# Altium integrated library 0201Capacitor_KEMET.IntLib: 2 symbols
Pins are listed as number, name and electrical type; pins without a type are passive.

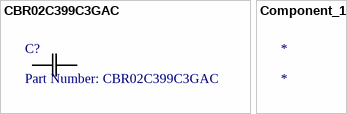
[diagram p0: symbols CBR02C399C3GAC to Component_1]

## CBR02C399C3GAC
designator C?, comment Part Number: CBR02C399C3GAC
No Description Available; Vendor: KEMET; Built_By: EMA_UL_Team; Type: DEV; Manufacturer_Part_Number: CBR02C399C3GAC; Copyright: Copyright (C) 2018 Accelerated Designs. All rights reserved; RefDes: RefDes; Value: Value
footprint CAP_CBR_0201
pins: 1, 2

## Component_1
designator *